# EAGLE library part AS1340 (library NASA_LIB)
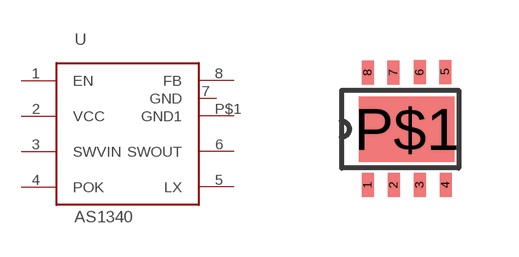
[diagram p11: symbol with the pads of TDFN-8; footprint TDFN-8]

Designator prefix -

## AS1340  [TDFN-8]
1  EN
2  VCC
3  SWVIN
4  POK
5  LX
6  SWOUT
7  GND
8  FB
P$1  GND1

## Footprint TDFN-8 (pad centres in mm)
smd 0.3 x 0.6: 1 -0.975,-1.4; 2 -0.325,-1.4; 3 0.325,-1.4; 4 0.975,-1.4; 5 0.965,1.435; 6 0.325,1.425; 7 -0.33,1.42; 8 -0.975,1.42
smd 2.38 x 1.64: P$1 0,0